# EAGLE library part TSW-150-02-S-S (library con-samtec)
THROUGH-HOLE .025" SQ POST HEADER Source: Samtec TSW.pdf
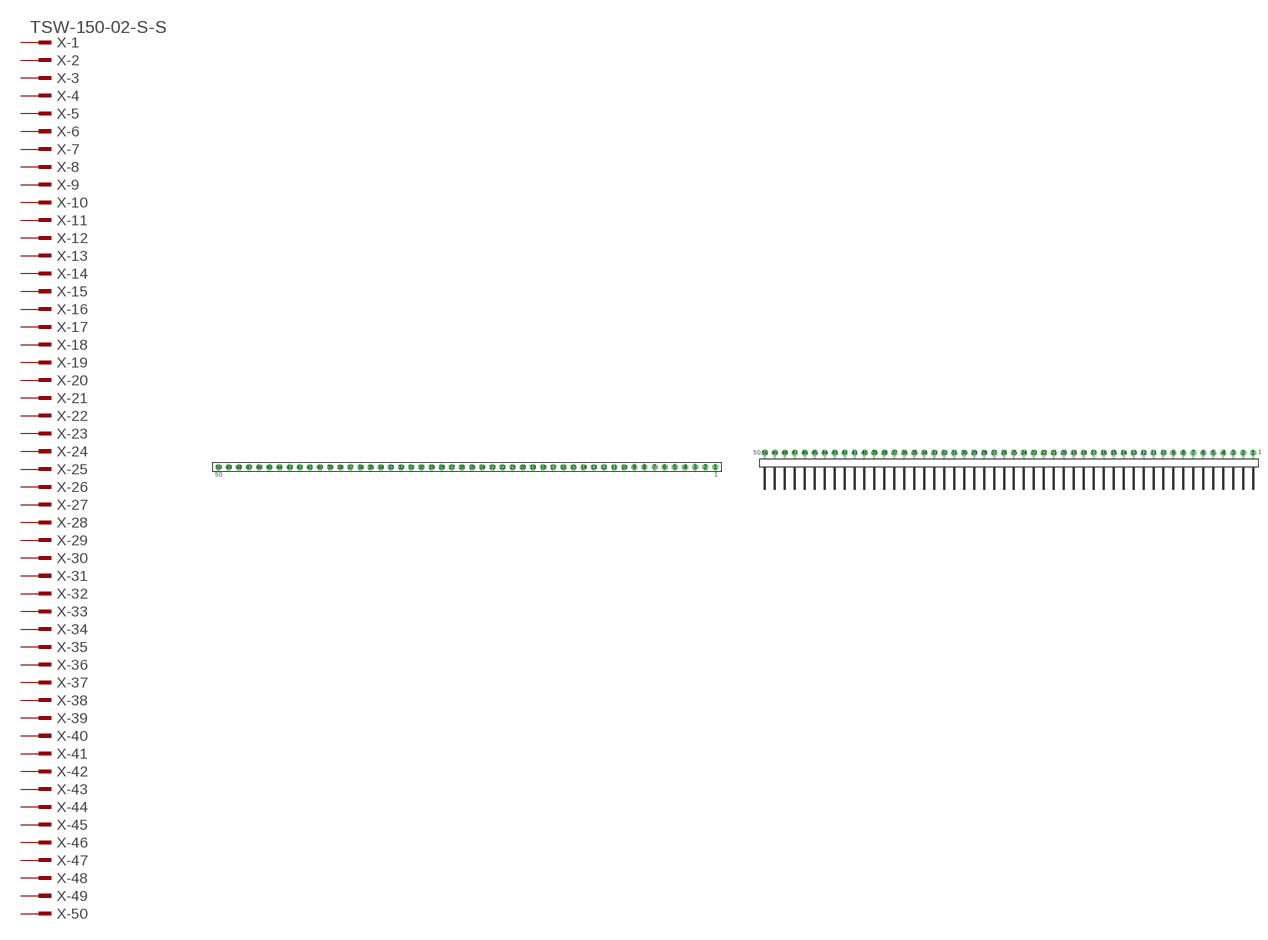
[diagram p147: symbol with the pads of TSW-150-02-S-S; footprints TSW-150-02-S-S, TSW-150-02-S-S-RA]

Designator prefix X; gates -1=MPINV -2=MPIN -3=MPIN -4=MPIN -5=MPIN -6=MPIN -7=MPIN -8=MPIN -9=MPIN -10=MPIN -11=MPIN -12=MPIN -13=MPIN -14=MPIN -15=MPIN -16=MPIN -17=MPIN -18=MPIN -19=MPIN -20=MPIN -21=MPIN -22=MPIN -23=MPIN -24=MPIN -25=MPIN -26=MPIN -27=MPIN -28=MPIN -29=MPIN -30=MPIN -31=MPIN -32=MPIN -33=MPIN -34=MPIN -35=MPIN -36=MPIN -37=MPIN -38=MPIN -39=MPIN -40=MPIN -41=MPIN -42=MPIN -43=MPIN -44=MPIN -45=MPIN -46=MPIN -47=MPIN -48=MPIN -49=MPIN -50=MPIN

## TSW-150-02-S-S  [TSW-150-02-S-S]
1  -1:1  pas
2  -2:1  pas
3  -3:1  pas
4  -4:1  pas
5  -5:1  pas
6  -6:1  pas
7  -7:1  pas
8  -8:1  pas
9  -9:1  pas
10  -10:1  pas
11  -11:1  pas
12  -12:1  pas
13  -13:1  pas
14  -14:1  pas
15  -15:1  pas
16  -16:1  pas
17  -17:1  pas
18  -18:1  pas
19  -19:1  pas
20  -20:1  pas
21  -21:1  pas
22  -22:1  pas
23  -23:1  pas
24  -24:1  pas
25  -25:1  pas
26  -26:1  pas
27  -27:1  pas
28  -28:1  pas
29  -29:1  pas
30  -30:1  pas
31  -31:1  pas
32  -32:1  pas
33  -33:1  pas
34  -34:1  pas
35  -35:1  pas
36  -36:1  pas
37  -37:1  pas
38  -38:1  pas
39  -39:1  pas
40  -40:1  pas
41  -41:1  pas
42  -42:1  pas
43  -43:1  pas
44  -44:1  pas
45  -45:1  pas
46  -46:1  pas
47  -47:1  pas
48  -48:1  pas
49  -49:1  pas
50  -50:1  pas

## TSW-150-02-S-S-RA  [TSW-150-02-S-S-RA]
Pads as for TSW-150-02-S-S

## Footprint TSW-150-02-S-S (pad centres in mm)
THROUGH-HOLE .025" SQ POST HEADER Source: Samtec TSW.pdf
drill 1 pad 1.5 octagon: 1 62.23,0; 2 59.69,0; 3 57.15,0; 4 54.61,0; 5 52.07,0; 6 49.53,0; 7 46.99,0; 8 44.45,0; 9 41.91,0; 10 39.37,0; 11 36.83,0; 12 34.29,0; 13 31.75,0; 14 29.21,0; 15 26.67,0; 16 24.13,0; 17 21.59,0; 18 19.05,0; 19 16.51,0; 20 13.97,0; 21 11.43,0; 22 8.89,0; 23 6.35,0; 24 3.81,0; 25 1.27,0; 26 -1.27,0; 27 -3.81,0; 28 -6.35,0; 29 -8.89,0; 30 -11.43,0; 31 -13.97,0; 32 -16.51,0; 33 -19.05,0; 34 -21.59,0; 35 -24.13,0; 36 -26.67,0; 37 -29.21,0; 38 -31.75,0; 39 -34.29,0; 40 -36.83,0; 41 -39.37,0; 42 -41.91,0; 43 -44.45,0; 44 -46.99,0; 45 -49.53,0; 46 -52.07,0; 47 -54.61,0; 48 -57.15,0; 49 -59.69,0; 50 -62.23,0

## Footprint TSW-150-02-S-S-RA (pad centres in mm)
THROUGH-HOLE .025" SQ POST HEADER Source: Samtec TSW.pdf
drill 1 pad 1.5 octagon: 1 62.23,1.524; 2 59.69,1.524; 3 57.15,1.524; 4 54.61,1.524; 5 52.07,1.524; 6 49.53,1.524; 7 46.99,1.524; 8 44.45,1.524; 9 41.91,1.524; 10 39.37,1.524; 11 36.83,1.524; 12 34.29,1.524; 13 31.75,1.524; 14 29.21,1.524; 15 26.67,1.524; 16 24.13,1.524; 17 21.59,1.524; 18 19.05,1.524; 19 16.51,1.524; 20 13.97,1.524; 21 11.43,1.524; 22 8.89,1.524; 23 6.35,1.524; 24 3.81,1.524; 25 1.27,1.524; 26 -1.27,1.524; 27 -3.81,1.524; 28 -6.35,1.524; 29 -8.89,1.524; 30 -11.43,1.524; 31 -13.97,1.524; 32 -16.51,1.524; 33 -19.05,1.524; 34 -21.59,1.524; 35 -24.13,1.524; 36 -26.67,1.524; 37 -29.21,1.524; 38 -31.75,1.524; 39 -34.29,1.524; 40 -36.83,1.524; 41 -39.37,1.524; 42 -41.91,1.524; 43 -44.45,1.524; 44 -46.99,1.524; 45 -49.53,1.524; 46 -52.07,1.524; 47 -54.61,1.524; 48 -57.15,1.524; 49 -59.69,1.524; 50 -62.23,1.524